# Altium footprint library Res.PcbLib: 9 footprints
Each footprint in its own frame and in the unit in brackets; x right, y up, seen from the top. Pads: shape width x height; smd on the part's side, far side on the other; paste and mask are expansions set on the pad; w line width, h text height; cw(c..) or ccw(c..) is an arc to the next point about the centre after c.
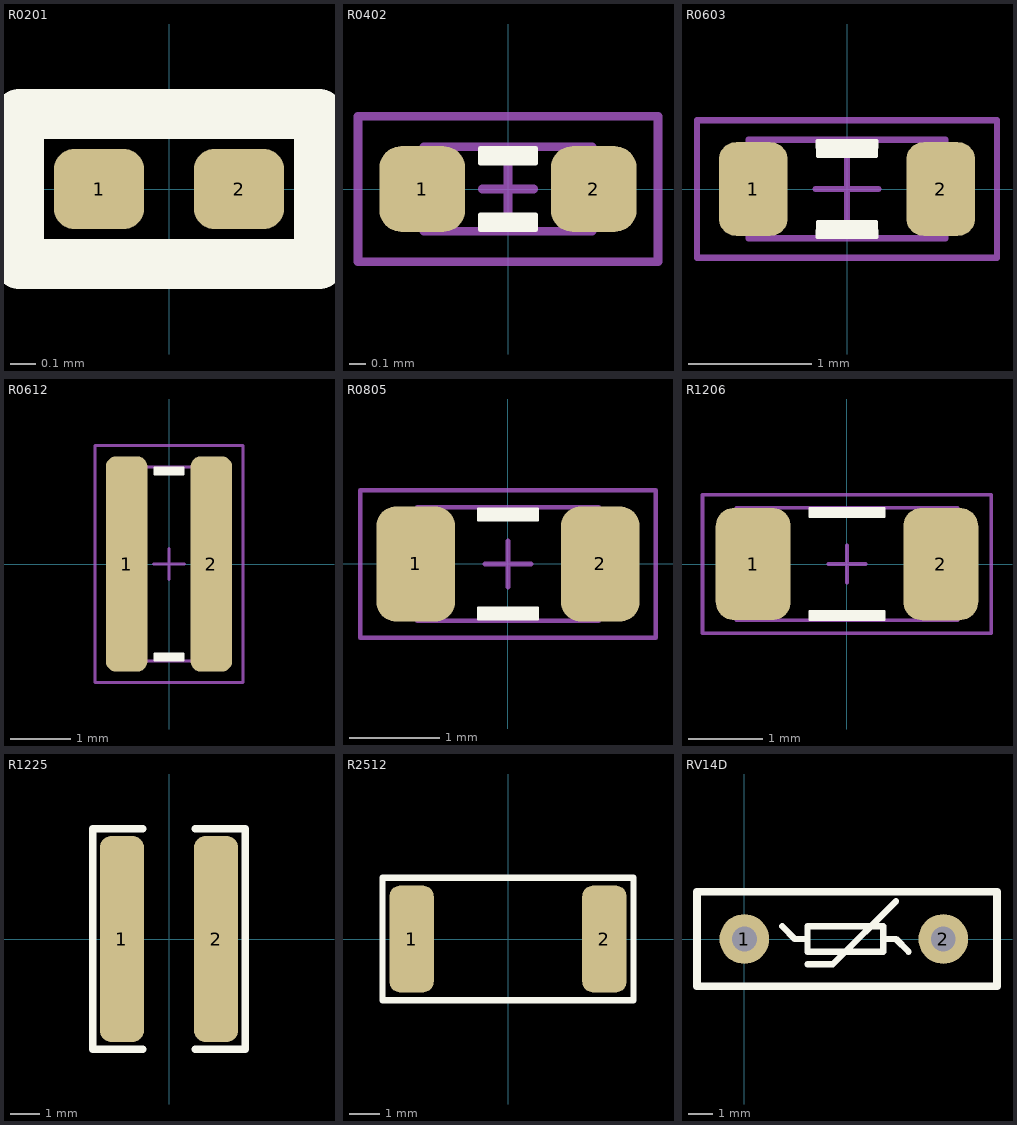
[diagram p0: the footprints below, top view; thin cyan lines are the x and y axes]

## R0201 [mm]
pads (2):
  rrect50% 0.36x0.32 smd: 1(-0.28,0) 2(0.28,0)
Top Overlay:
  lines w0.2: -0.6,-0.3 0.6,-0.3 0.6,0.3 -0.6,0.3 -0.6,-0.3
3D body "Res-0201.x_t": height 0.24, standoff 0, extent -0.3,-0.15 0.3,0.15

## R0402 [mil]
pads (2):
  rrect50% 20x20 smd: 1(-20,0) 2(20,0)
Top Overlay:
  region: -6.5,9.5 6.5,9.5 6.5,6 -6.5,6
  region: 6.5,-9.5 -6.5,-9.5 -6.5,-6 6.5,-6
  lines w1: -6.5,-9.5 -6.5,-6 6.5,-6 6.5,-9.5 -6.5,-9.5 ; -6.5,6 6.5,6 6.5,9.5 -6.5,9.5 -6.5,6
Mechanical 13:
  lines w2: -6,0 6,0 ; 0,-6 0,6 ; -19.69,-9.84 19.68,-9.84 19.68,9.84 -19.69,9.84 -19.69,-9.84
Mechanical 14:
  lines w2: -35,-17 -35,17 35,17 35,-17 -35,-17
3D body "RESC1005X03L.step": height 13.78, standoff 0, extent -19.68,-9.84 19.69,9.85

## R0603 [mil]
pads (2):
  rrect50% 22x30 smd: 1(-30,0) 2(30,0)
Top Overlay:
  region: 9.5,-15.5 -9.5,-15.5 -9.5,-10.5 9.5,-10.5
  region: -9.5,15.5 9.5,15.5 9.5,10.5 -9.5,10.5
  lines w1: -9.5,-15.5 -9.5,-10.5 9.5,-10.5 9.5,-15.5 -9.5,-15.5 ; -9.5,10.5 9.5,10.5 9.5,15.5 -9.5,15.5 -9.5,10.5
Mechanical 13:
  lines w2: -10,0 10,0 ; 0,-10 0,10 ; -31.5,-15.75 31.5,-15.75 31.5,15.75 -31.5,15.75 -31.5,-15.75
Mechanical 14:
  lines w2: -48,-22 -48,22 48,22 48,-22 -48,-22
3D body "RESC1608X05L.step": height 17.72, standoff 0, extent -31.49,-15.74 31.5,15.75

## R0612 [mil]
pads (2):
  rrect50% 27x140 smd: 1(-27.56,0) 2(27.56,0)
Top Overlay:
  region: -9.5,63 9.5,63 9.5,58 -9.5,58
  region: 9.5,-63 -9.5,-63 -9.5,-58 9.5,-58
  lines w1: -9.5,-63 9.5,-63 9.5,-58 -9.5,-58 -9.5,-63 ; -9.5,58 -9.5,63 9.5,63 9.5,58 -9.5,58
Mechanical 13:
  lines w2: -10,0 10,0 ; 0,-10 0,10 ; -31.5,-63 -31.5,63 31.5,63 31.5,-63 -31.5,-63
Mechanical 14:
  lines w2: -48,-77 -48,77 48,77 48,-77 -48,-77
3D body "User Library-wk732b.x_t": height 24.11, standoff 0, extent -31.5,-63 31.49,62.99

## R0805 [mil]
pads (2):
  rrect50% 34x50 smd: 1(-40,0) 2(40,0)
Top Overlay:
  region: 13,-24 -13,-24 -13,-19 13,-19
  region: -13,24 13,24 13,19 -13,19
  lines w1: -13,-24 -13,-19 13,-19 13,-24 -13,-24 ; -13,19 -13,24 13,24 13,19 -13,19
Mechanical 13:
  lines w2: -10,0 10,0 ; 0,-10 0,10 ; -39.37,-24.61 -39.37,24.61 39.37,24.61 39.37,-24.61 -39.37,-24.61
Mechanical 14:
  lines w2: -64,-32 -64,32 64,32 64,-32 -64,-32
3D body "User Library-R-0805-1.step": height 29.92, standoff 0, extent -45.27,-26.57 45.28,26.58

## R1206 [mil]
pads (2):
  rrect50% 40x60 smd: 1(-50,0) 2(50,0)
Top Overlay:
  region: 20,-30 -20,-30 -20,-25 20,-25
  region: 20,25 -20,25 -20,30 20,30
  lines w1: -20,-30 20,-30 20,-25 -20,-25 -20,-30 ; -20,25 20,25 20,30 -20,30 -20,25
Mechanical 13:
  lines w2: -10,0 10,0 ; 0,-10 0,10 ; -59,-30 59,-30 59,30 -59,30 -59,-30
Mechanical 14:
  lines w2: -77,-37 -77,37 77,37 77,-37 -77,-37
3D body "User Library-R1206.step": height 18.66, standoff 0, extent -61.02,-30.55 61.03,30.56

## R1225 [mm]
pads (2):
  rrect50% 1.5x7 smd: 1(-1.6,0) 2(1.6,0)
Top Overlay:
  lines w0.254: -0.9,-3.75 -2.6,-3.75 -2.6,3.75 -0.9,3.75 ; 0.9,-3.75 2.6,-3.75 2.6,3.75 0.9,3.75
3D body "Res-1225.x_t": height 0.59, standoff -0.02, extent -1.55,-3.15 1.55,3.15

## R2512 [mm]
pads (2):
  rrect50% 1.45x3.5 smd: 1(-3.15,0) 2(3.15,0)
Top Overlay:
  lines w0.2: -4.1,-2 -4.1,2 4.1,2 4.1,-2 -4.1,-2
3D body "User Library-R2512.step": height 0.47, standoff 0, extent -3.175,-1.601 3.175,1.601

## RV14D [mm]
pads (2):
  round 2 hole 1: 1(0,0) 2(8,0)
Top Overlay:
  lines w0.254: 1.524,0.508 2.032,0 2.54,0 ; 2.54,-1.016 3.556,-1.016 6.096,1.524 ; 5.588,0 6.096,0 6.604,-0.508 ; 2.54,-0.508 5.588,-0.508 5.588,0.508 2.54,0.508 2.54,-0.508
  lines w0.305: 10.16,-1.905 -1.905,-1.905 -1.905,1.905 10.16,1.905 ; 10.16,-1.8 10.16,1.8
3D body "User Library-MOV 14mm.STEP": height 20.5, standoff -2, extent -4.686,-2.997 12.306,3.302